# EAGLE library part AD8362 (library analog-devices)
65 dB TruPwr™ Detector 50 Hz to 3.8 GHz
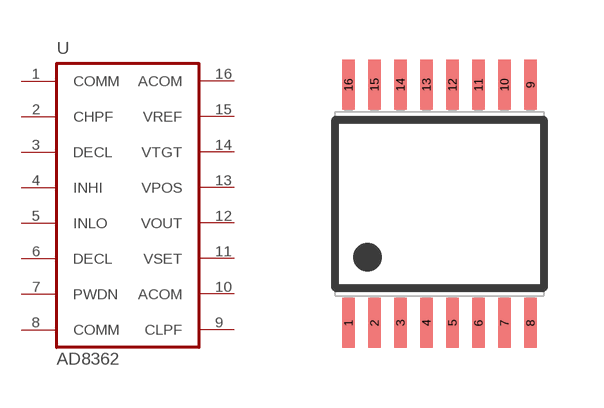
[diagram p67: symbol with the pads of TSSOP16; footprint TSSOP16]

Designator prefix U

## AD8362  [TSSOP16]
1  COMM  pwr
2  CHPF  in
3  DECL  pas
4  INHI  in
5  INLO  in
6  DECL  pas
7  PWDN  in
8  COMM  pwr
9  CLPF  pwr
10  ACOM  pwr
11  VSET  in
12  VOUT  out
13  VPOS  pwr
14  VTGT  pas
15  VREF  pas
16  ACOM  pwr

## Footprint TSSOP16 (pad centres in mm)
Thin Shrink Small Outline Plastic 16
smd 0.31 x 1.25: 1 -2.275,-2.98; 2 -1.625,-2.98; 3 -0.975,-2.98; 4 -0.325,-2.98; 5 0.325,-2.98; 6 0.975,-2.98; 7 1.625,-2.98; 8 2.275,-2.98; 9 2.275,2.98; 10 1.625,2.98; 11 0.975,2.98; 12 0.325,2.98; 13 -0.325,2.98; 14 -0.975,2.98; 15 -1.625,2.98; 16 -2.275,2.98